# Altium footprint library IND_DLP31D.PcbLib: 1 footprints
Each footprint in its own frame and in the unit in brackets; x right, y up, seen from the top. Pads: shape width x height; smd on the part's side, far side on the other; paste and mask are expansions set on the pad; w line width, h text height; cw(c..) or ccw(c..) is an arc to the next point about the centre after c.
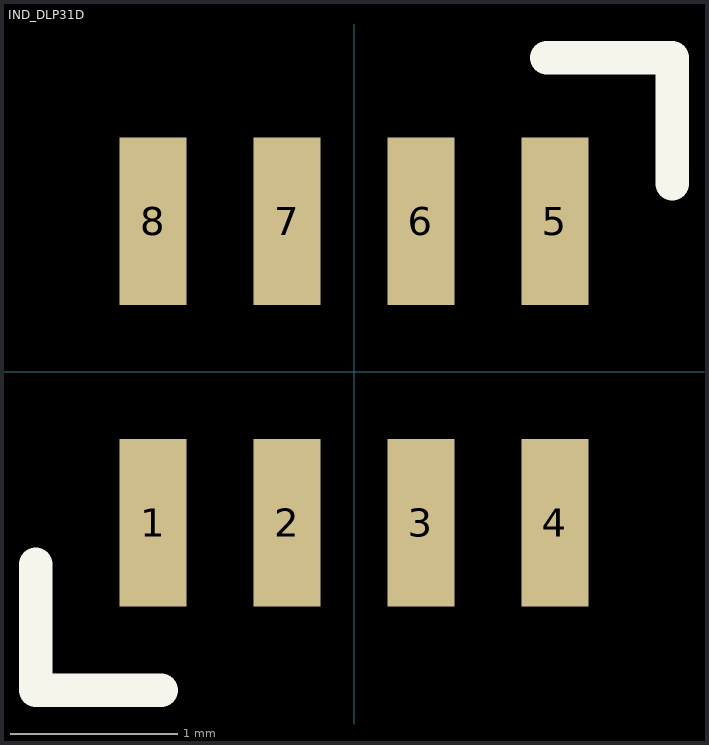
[diagram p0: the footprint, top view; thin cyan lines are the x and y axes]

## IND_DLP31D [mm] "SMD Common Mode Choke 1206"
height 1.15
pads (8):
  rect 0.4x1 smd: 1(-1.2,-0.9) 2(-0.4,-0.9) 3(0.4,-0.9) 4(1.2,-0.9) 5(1.2,0.9) 6(0.4,0.9) 7(-0.4,0.9) 8(-1.2,0.9)
Top Overlay:
  lines w0.2: -1.9,-1.15 -1.9,-1.9 -1.15,-1.9 ; 1.15,1.875 1.9,1.875 1.9,1.125
3D body: height 1.15, standoff 0, extent -1.6,-0.8 1.6,0.8